# Altium footprint library Custom.PcbLib: 446 footprints (part 7 of 28)
Each footprint in its own frame and in the unit in brackets; x right, y up, seen from the top. Pads: shape width x height; smd on the part's side, far side on the other; paste and mask are expansions set on the pad; w line width, h text height; cw(c..) or ccw(c..) is an arc to the next point about the centre after c.
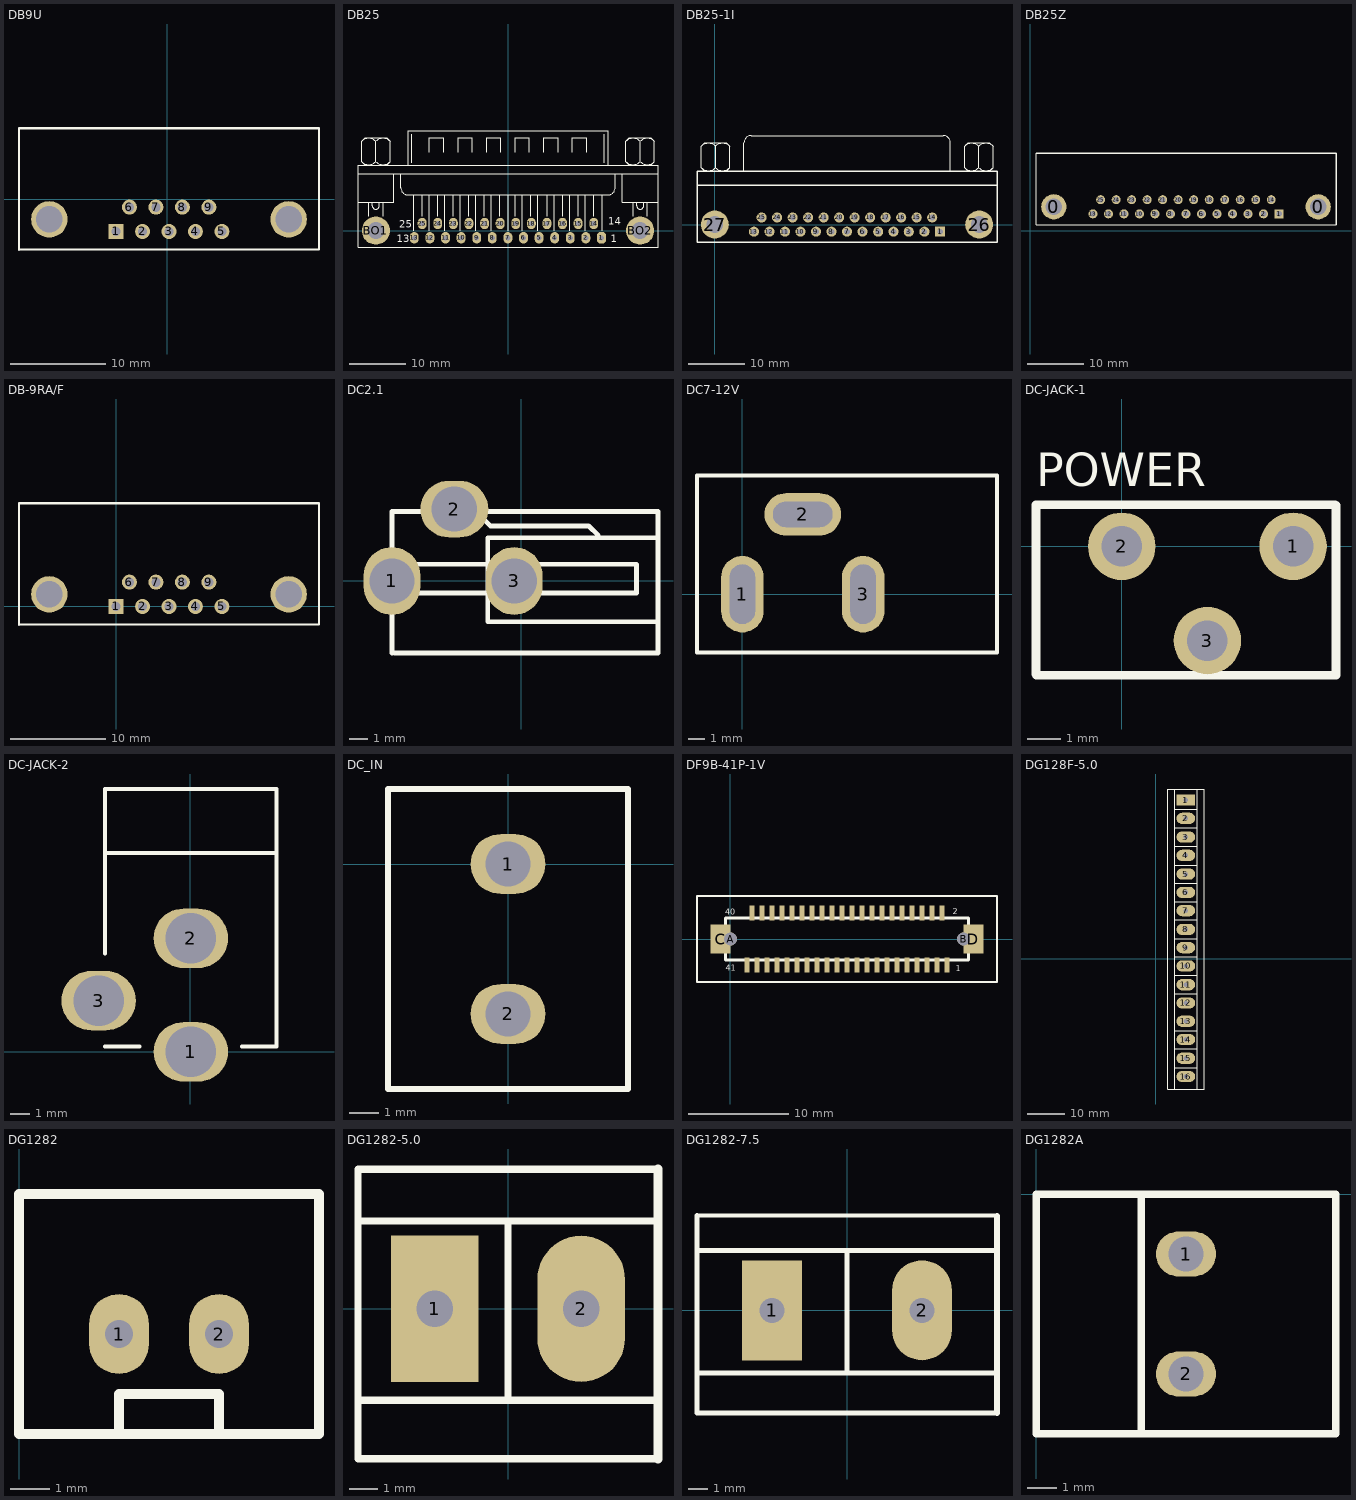
[diagram p6: the footprints below, top view; thin cyan lines are the x and y axes]

## DB9U [mil]
pads (11):
  rect 62x62 hole 38: 1(-211.81,-133.23)
  round 62 hole 38: 2(-102.81,-133.23) 3(6.19,-133.23) 4(115.19,-133.23) 5(224.19,-133.23) 6(-156.81,-33.23) 7(-47.81,-33.23) 8(61.19,-33.23) 9(170.19,-33.23)
  round 150 hole 110: ""(-486.81,-83.23) ""(499.19,-83.23)
Top Overlay:
  lines w8: -611.81,-208.23 624.19,-208.23 624.19,291.77
  lines w10: -611.81,-208.23 -611.81,291.77 624.19,291.77

## DB25 [mil]
pads (27):
  oct 62x80 hole 35: 1(654.17,-50)
  oval 62x80 hole 35: 2(545,-50) 3(435.83,-50) 4(326.67,-50) 5(217.5,-50) 6(108.33,-50) 7(-0.83,-50) 8(-110,-50) 9(-219.17,-50) 10(-328.33,-50) 11(-437.5,-50) 12(-546.67,-50) 13(-655.83,-50) 14(600,50) 15(490.83,50) 16(381.67,50) 17(272.5,50) 18(163.33,50) 19(54.17,50) 20(-55,50) 21(-164.17,50) 22(-273.33,50) 23(-382.5,50) 24(-491.67,50) 25(-600.83,50)
  round 196.67 hole 118.33: BO1(-925,0) BO2(925,0)
Top Overlay:
  lines w8: -1050,200 -800,200 -800,400 ; -1050,400 1050,400 ; -1025.09,483.25 ccw(c-975,533.33) -924.91,483.25 ; -1025.09,625.09 cw(c-975,575) -924.91,625.09 ; -1000,458.33 -1025,483.33 -1025,625 -1000,650 -850,650 -825,625 -825,483.33 -850,458.33 ; -975,100 -975,200 ; -950,200 -950,175 ccw(c-925,175) -900,175 -900,200 ; -925.09,483.25 ccw(c-875,533.33) -824.91,483.25 ; -925.09,625.09 cw(c-875,575) -824.91,625.09 ; -925,483.33 -925,625 ; -875,100 -875,200 ; -750,400 -750,300 ccw(c-700,300) -700,250 700,250 ccw(c700,300) 750,300 750,400 ; -700,458.33 -700,700 700,700 700,458.33 ; -675,475 -675,675 ; -658.33,0 -658.33,250 ; -600,100 -600,250 ; -550,0 -550,250 ; -550,550 -550,650 -450,650 -450,550 ; -491.67,100 -491.67,250 ; -441.67,0 -441.67,250 ; -383.33,100 -383.33,250 ; -350,550 -350,650 -250,650 -250,550 ; -333.33,0 -333.33,250 ; -275,100 -275,250 ; -225,0 -225,250 ; -166.67,100 -166.67,250 ; -150,550 -150,650 -50,650 -50,550 ; -116.67,0 -116.67,250 ; -58.33,100 -58.33,250 ; 0,0 0,250 ; 50,100 50,250 ; 50,550 50,650 150,650 150,550 ; 100,0 100,250 ; 158.33,100 158.33,250 ; 208.33,0 208.33,250 ; 250,550 250,650 350,650 350,550 ; 275,100 275,250 ; 325,0 325,250 ; 383.33,100 383.33,250 ; 433.33,0 433.33,250 ; 450,550 450,650 550,650 550,550 ; 491.67,100 491.67,250 ; 541.67,0 541.67,250 ; 600,100 600,250 ; 658.33,0 658.33,250 ; 675,475 675,675 ; 800,400 800,200 1050,200 ; 824.91,483.25 ccw(c875,533.33) 925.09,483.25 ; 824.91,625.09 cw(c875,575) 925.09,625.09 ; 850,458.33 825,483.33 825,625 850,650 1000,650 1025,625 1025,483.33 1000,458.33 ; 875,100 875,200 ; 900,200 900,175 ccw(c925,175) 950,175 950,200 ; 924.91,483.25 ccw(c975,533.33) 1025.09,483.25 ; 924.91,625.09 cw(c975,575) 1025.09,625.09 ; 925,483.33 925,625 ; 975,100 975,200 ; -1050,-116.67 -1050,458.33 1050,458.33 1050,-116.67 -1050,-116.67
  text "14" at 700,40 h50
  text "1" at 720,-80 h50
  text "13" at -780,-80 h50
  text "25" at -760,20 h50

## DB25-1I [mm]
pads (27):
  rect 1.8x1.8 hole 1: 1(40.208,-1.27)
  round 1.8 hole 1: 2(37.414,-1.27) 3(34.62,-1.27) 4(31.902,-1.27) 5(29.159,-1.27) 6(26.365,-1.27) 7(23.597,-1.27) 8(20.828,-1.27) 9(18.059,-1.27) 10(15.291,-1.27) 11(12.522,-1.27) 12(9.754,-1.27) 13(6.985,-1.27) 14(38.811,1.27) 15(36.043,1.27) 16(33.274,1.27) 17(30.505,1.27) 18(27.737,1.27) 19(24.968,1.27) 20(22.2,1.27) 21(19.431,1.27) 22(16.662,1.27) 23(13.894,1.27) 24(11.125,1.27) 25(8.357,1.27)
  round 5 hole 3: 26(47.193,0) 27(0,0)
Top Overlay:
  lines w0.203: -2.415,10.158 ccw(c-1.143,11.43) 0.129,10.158 0.129,13.972 ccw(c-1.143,12.7) -2.415,13.972 ; -1.778,9.525 -2.413,10.16 -2.413,13.97 -1.778,14.605 2.032,14.605 2.667,13.97 2.667,10.16 2.032,9.525 ; 0.125,10.158 ccw(c1.397,11.43) 2.669,10.158 ; 0.125,13.972 cw(c1.397,12.7) 2.669,13.972 ; 5.207,9.525 5.207,14.605 cw(c6.477,14.605) 6.477,15.875 40.767,15.875 cw(c40.767,14.605) 42.037,14.605 42.037,9.525 ; 44.575,10.158 ccw(c45.847,11.43) 47.119,10.158 47.119,13.972 ccw(c45.847,12.7) 44.575,13.972 ; 45.212,9.525 44.577,10.16 44.577,13.97 45.212,14.605 49.022,14.605 49.657,13.97 49.657,10.16 49.022,9.525 ; 47.115,10.158 ccw(c48.387,11.43) 49.659,10.158 ; 47.115,13.972 cw(c48.387,12.7) 49.659,13.972
  lines w0.254: -3.175,7.036 50.368,7.036 ; -3.175,-3.175 -3.175,9.525 50.368,9.525 50.368,-3.175 -3.175,-3.175
Multi-Layer:
  text "Comment" at 4.763,16.942 h0.64

## DB25Z [mm]
pads (27):
  round 4.5 hole 3: 0(4.218,4.284) 0(51.411,4.284)
  rect 1.6x1.6 hole 1: 1(44.426,3.014)
  round 1.6 hole 1: 2(41.657,3.014) 3(38.889,3.014) 4(36.12,3.014) 5(33.352,3.014) 6(30.583,3.014) 7(27.814,3.014) 8(25.046,3.014) 9(22.277,3.014) 10(19.509,3.014) 11(16.74,3.014) 12(13.971,3.014) 13(11.203,3.014) 14(43.029,5.554) 15(40.26,5.554) 16(37.492,5.554) 17(34.723,5.554) 18(31.955,5.554) 19(29.186,5.554) 20(26.417,5.554) 21(23.649,5.554) 22(20.88,5.554) 23(18.112,5.554) 24(15.343,5.554) 25(12.574,5.554)
Top Overlay:
  lines w0.203: 1.043,13.809 1.043,1.109 54.586,1.109
  lines w0.254: 1.043,13.809 54.586,13.809 54.586,1.109

## DB-9RA/F [mil]
pads (11):
  rect 62x62 hole 38: 1(0,0)
  round 62 hole 38: 2(109,0) 3(218,0) 4(327,0) 5(436,0) 6(55,100) 7(164,100) 8(273,100) 9(382,100)
  round 150 hole 110: ""(-275,50) ""(711,50)
Top Overlay:
  lines w8: -400,-75 836,-75 836,425
  lines w10: -400,-75 -400,425 836,425

## DC2.1 [mm]
pads (3):
  oval 3x3.6 hole 2.4: 1(-6.858,0) 3(-0.381,0)
  oval 3.6x3 hole 2.4: 2(-3.556,3.81)
Top Overlay:
  lines w0.254: -6.858,-3.81 -6.858,3.683 7.239,3.683 7.239,-3.81 -6.731,-3.81 ; -6.858,-0.508 -6.731,-0.635 6.096,-0.635 6.096,0.889 -6.858,0.889 ; -2.286,3.556 -1.651,2.921 3.556,2.921 4.064,2.413 ; 7.239,-2.159 -1.778,-2.159 -1.778,2.286 7.239,2.286

## DC7-12V [mm]
pads (3):
  oval 2.5x4.5 hole 1.5 slot 3.5 at 90 deg: 1(0,0) 3(7.112,0)
  oval 4.5x2.5 hole 1.5 slot 3.5 at 0 deg: 2(3.556,4.699)
Top Overlay:
  lines w0.254: -2.667,-3.429 -2.667,6.985 14.986,6.985 14.986,-3.429 -2.667,-3.429

## DC-JACK-1 [mm]
pads (3):
  round 2 hole 1.2: 1(5.08,0) 2(0,0) 3(2.54,-2.794)
Top Overlay:
  lines w0.254: -2.543,-3.788 -2.543,1.235 6.333,1.235 ; -2.538,-3.827 6.35,-3.827 6.35,1.218
  text "POWER" at -2.54,1.778 h1

## DC-JACK-2 [mil]
pads (3):
  oval 150x120 hole 102: 1(1.07,0.21) 2(1.07,229.21) 3(-184.93,103.21)
Top Overlay:
  lines w8: -171.93,11.21 -101.93,11.21 ; -171.93,198.21 -171.93,530.21 174.07,530.21 174.07,11.21 104.07,11.21 ; -171.93,401.21 174.07,401.21

## DC_IN [mil]
pads (2):
  oval 100x80 hole 60: 1(-0.3,0) 2(-0.3,-200)
Top Overlay:
  lines w8: -160.3,-300 -60.3,-300 79.7,-300 159.7,-300 159.7,100 79.7,100 -80.3,100 -160.3,100 -160.3,-300

## DF9B-41P-1V [mm]
pads (45):
  rect 0.5x1.5 smd: 1(21.657,-2.599) 2(21.157,2.601) 3(20.657,-2.599) 4(20.157,2.601) 5(19.657,-2.599) 6(19.157,2.601) 7(18.657,-2.599) 8(18.157,2.601) 9(17.657,-2.599) 10(17.157,2.601) 11(16.657,-2.599) 12(16.157,2.601) 13(15.657,-2.599) 14(15.157,2.601) 15(14.657,-2.599) 16(14.157,2.601) 17(13.657,-2.599) 18(13.157,2.601) 19(12.657,-2.599) 20(12.157,2.601) 21(11.657,-2.599) 22(11.157,2.601) 23(10.657,-2.599) 24(10.157,2.601) 25(9.657,-2.599) 26(9.157,2.601) 27(8.657,-2.599) 28(8.157,2.601) 29(7.657,-2.599) 30(7.157,2.601) 31(6.657,-2.599) 32(6.157,2.601) 33(5.657,-2.599) 34(5.157,2.601) 35(4.657,-2.599) 36(4.157,2.601) 37(3.657,-2.599) 38(3.157,2.601) 39(2.657,-2.599) 40(2.157,2.601) 41(1.657,-2.599)
  round 1.3 hole 1.3: A(0.007,0.001) B(23.307,0.001)
  rect 2x2.9 smd: C(-0.993,0.001) D(24.307,0.001)
Top Overlay:
  lines w0.2: -3.343,-4.299 -3.343,4.301 ; -3.343,-4.296 26.657,-4.296 ; -3.343,4.304 26.657,4.304 ; 26.657,-4.299 26.657,4.301
  lines w0.254: -0.493,-2.099 23.807,-2.099 23.807,2.101 -0.493,2.101 -0.493,-2.099
  text "40" at -0.518,2.426 h0.6
  text "41" at -0.493,-3.149 h0.6
  text "2" at 22.257,2.476 h0.6
  text "1" at 22.507,-3.224 h0.6

## DG128F-5.0 [mil]
pads (16):
  rect 200x120 hole 50: 1(320,1693)
  oval 200x120 hole 50: 2(320,1498) 3(320,1298) 4(320,1103) 5(320,903) 6(320,708) 7(320,513) 8(320,313) 9(320,118) 10(320,-77) 11(320,-277) 12(320,-472) 13(320,-667) 14(320,-862) 15(320,-1062) 16(320,-1257)
Top Overlay:
  lines w12: 203,1594 438,1594 ; 204,-1390 204,1811 ; 208,-1161 438,-1161 ; 208,-961 438,-961 ; 208,-766 438,-766 ; 208,-376 438,-376 ; 208,-176 438,-176 ; 208,19 438,19 ; 208,214 438,214 ; 208,414 438,414 ; 208,609 438,609 ; 208,804 438,804 ; 208,999 438,999 ; 208,1199 438,1199 ; 208,1399 438,1399 ; 440,-1390 440,1811 ; 125,-1390 125,1811 519,1811 519,-1390 125,-1390

## DG1282 [mil]
pads (2):
  oval 60x80 hole 27.56: 1(100,360) 2(200,360)
Top Overlay:
  lines w10: 100,260 100,300 200,300 200,280 200,260 ; 0,260 300,260 300,500 0,500 0,380 0,260

## DG1282-5.0 [mil]
pads (2):
  rect 120x200 hole 50: 1(-100,0)
  oval 120x200 hole 50: 2(100,0)
Top Overlay:
  lines w10: -205,-203 -205,-205 205,-205 ; -205,-200 -205,191 205,191 ; -205,-125 205,-125 ; -205,120 205,120 ; 0,-124 0,120
  lines w12: 205,-205 205,191

## DG1282-7.5 [mil]
pads (2):
  rect 120x200 hole 50: 1(-150,0)
  oval 120x200 hole 50: 2(150,0)
Top Overlay:
  lines w10: -300,-125 300,-125 ; -300,120 300,120 ; -300,186 -300,-205 300,-205 ; -300,190 300,189 ; 0,-124 0,120
  lines w12: 300,-205 300,189

## DG1282A [mil]
pads (2):
  oval 80x60 hole 47.24: 1(200,-80) 2(200,-240)
Top Overlay:
  lines w10: 140,-320 140,0 ; 0,-320 240,-320 260,-320 280,-320 360,-320 400,-320 400,0 360,0 280,0 260,0 240,0 0,0 0,-20 0,-320